# Altium integrated library ICM-20948.IntLib: 1 symbol
Pins are listed as number, name and electrical type; pins without a type are passive.

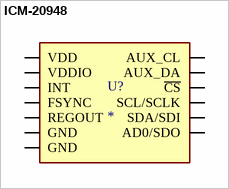
[diagram p0: symbol ICM-20948]

## ICM-20948
designator U?
<h3>ICM-20948 9 Degree of Freedom IMU </h3> <p>Worldâ€™s lowest power 9-axis MotionTracking device that is ideally suited for smartphones, tablets, wearable sensors, and IoT applications. Includes onboard Digital Motion Processor to offload computations from the host processor<br>  <br><a href=â€https://cdn.sparkfun.com/assets/learn_tutorials/5/5/0/MPU9250REV1.0.pdfâ€>Datasheet</a></p> <p><b>SparkFun Products:</b> <ul><li><a href=â€https://www.sparkfun.com/products/15182â€>SparkFun IMU Breakout - ICM-20948</a></li> </ul></p>; MF: InvenSense; MP: ICM20948; Price: None; Check_prices: https://www.snapeda.com/parts/ICM20948/TDK+InvenSense/view-part/?ref=eda; SnapEDA_Link: https://www.snapeda.com/parts/ICM20948/TDK+InvenSense/view-part/?ref=snap; Availability: In Stock; Purchase-URL: https://pricing.snapeda.com/search/part/ICM20948/?ref=eda; Value: *; Package: None
footprint QFN24-3X3-ICM-20948
pins: 7 AUX_CL (io), 8 VDDIO (io), 9 AD0/SDO (io), 10 REGOUT (io), 11 FSYNC (io), 12 INT (io), 13 VDD (io), 18 GND (io), 20 GND (io), 21 AUX_DA (io), 22 ~{CS} (io), 23 SCL/SCLK (io), 24 SDA/SDI (io)